# EAGLE library part USB-MINI-B-TH-FLAT-SIDE (library USB Connector)
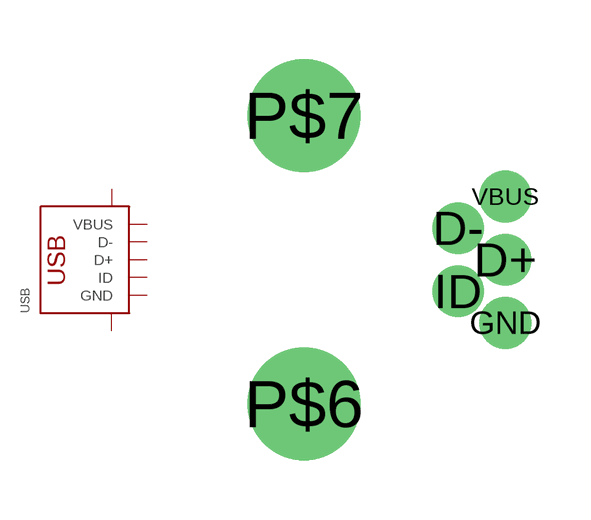
[diagram p1: symbol with the pads of USB-MINI-B-TH-FLAT-SIDE; footprint USB-MINI-B-TH-FLAT-SIDE]

Designator prefix USB

## USB-MINI-B-TH-FLAT-SIDE  [USB-MINI-B-TH-FLAT-SIDE]
D+  D+
D-  D-
GND  GND
ID  ID
P$6  SHIELD
P$7  SHIELD
VBUS  VBUS

## Footprint USB-MINI-B-TH-FLAT-SIDE (pad centres in mm)
USB Series Mini-B Hole Mounted
drill 0.8: D+ 5.1,0; D- 3.9,0.8; GND 5.1,-1.6; ID 3.9,-0.8; VBUS 5.1,1.6
drill 1.9: P$6 0,-3.65; P$7 0,3.65